# Altium schematic symbol library STM32F1.SchLib: 3 symbols
Pins are listed as number, name and electrical type; pins without a type are passive.

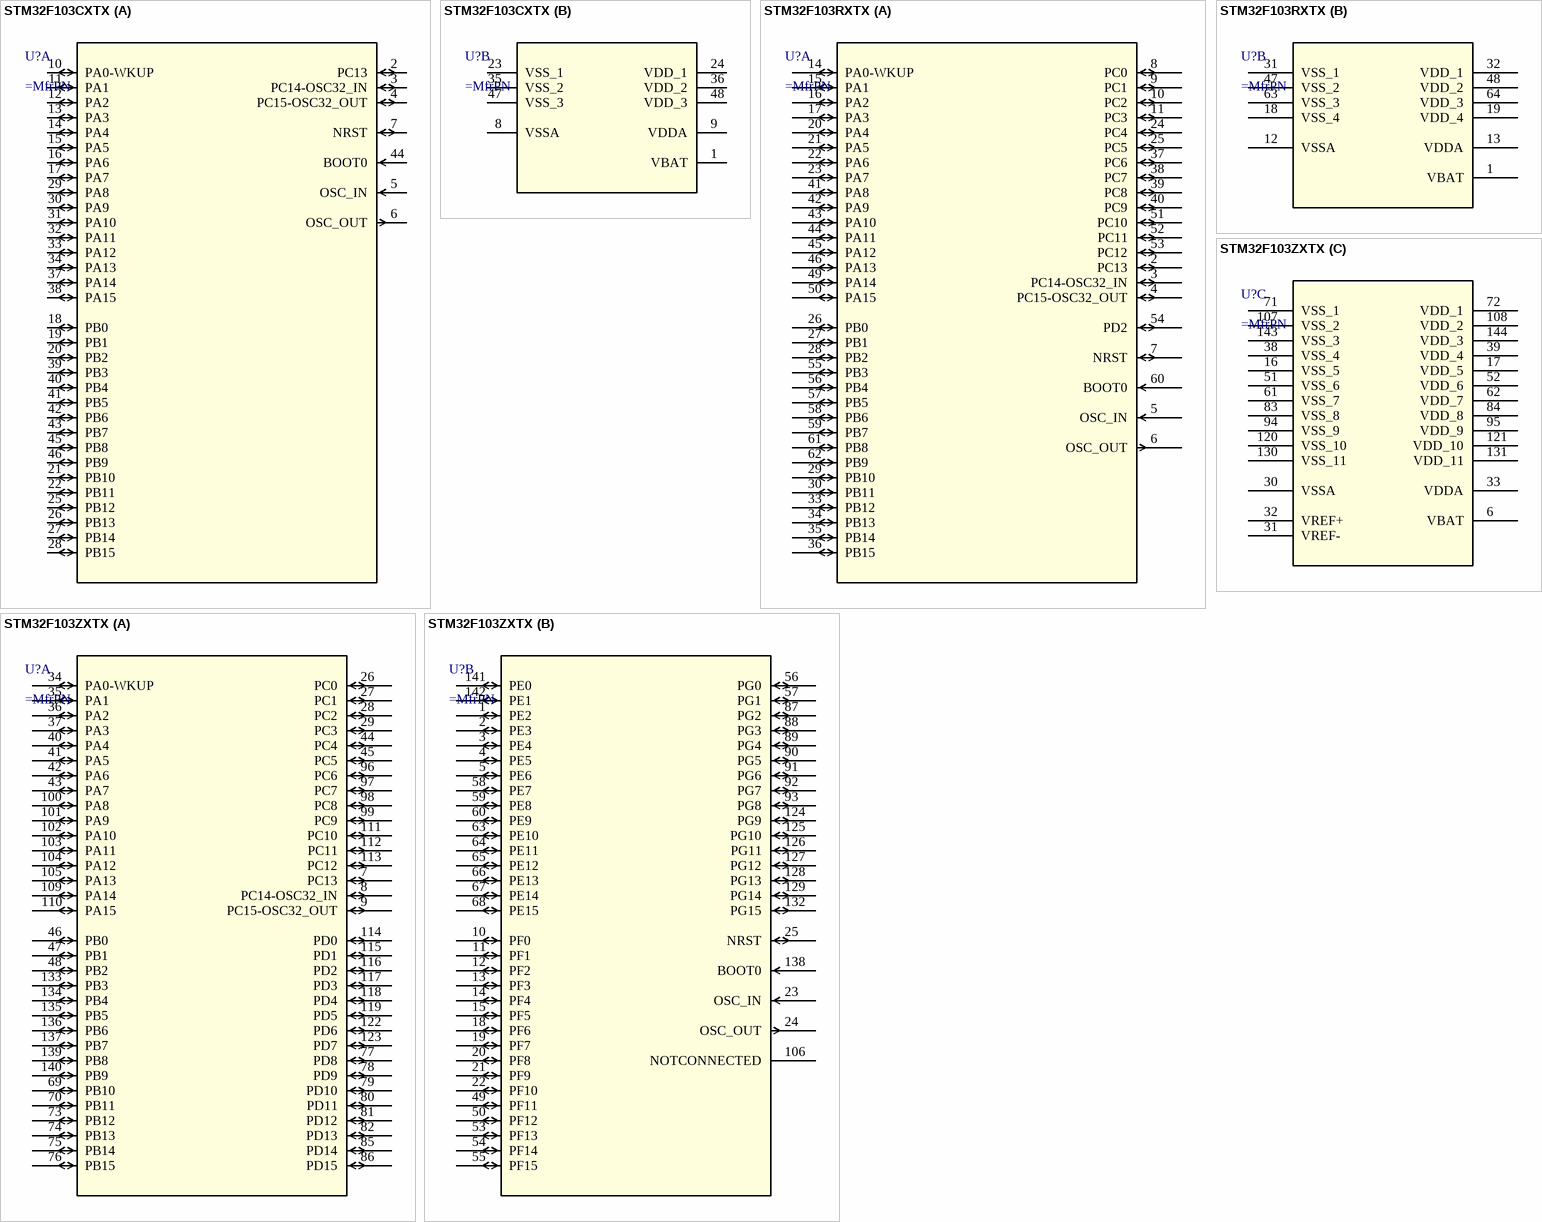
[diagram p0: symbols STM32F103CXTX to STM32F103ZXTX]

## STM32F103CXTX
designator U?
part A pins: 2 PC13, 3 PC14-OSC32_IN, 4 PC15-OSC32_OUT, 5 OSC_IN, 6 OSC_OUT, 7 NRST, 10 PA0-WKUP, 11 PA1, 12 PA2, 13 PA3, 14 PA4, 15 PA5, 16 PA6, 17 PA7, 18 PB0, 19 PB1, 20 PB2, 21 PB10, 22 PB11, 25 PB12, 26 PB13, 27 PB14, 28 PB15, 29 PA8, 30 PA9, 31 PA10, 32 PA11, 33 PA12, 34 PA13, 37 PA14, 38 PA15, 39 PB3, 40 PB4, 41 PB5, 42 PB6, 43 PB7, 44 BOOT0, 45 PB8, 46 PB9
part B pins: 1 VBAT, 8 VSSA, 9 VDDA, 23 VSS_1, 24 VDD_1, 35 VSS_2, 36 VDD_2, 47 VSS_3, 48 VDD_3

## STM32F103RXTX
designator U?
part A pins: 2 PC13, 3 PC14-OSC32_IN, 4 PC15-OSC32_OUT, 5 OSC_IN, 6 OSC_OUT, 7 NRST, 8 PC0, 9 PC1, 10 PC2, 11 PC3, 14 PA0-WKUP, 15 PA1, 16 PA2, 17 PA3, 20 PA4, 21 PA5, 22 PA6, 23 PA7, 24 PC4, 25 PC5, 26 PB0, 27 PB1, 28 PB2, 29 PB10, 30 PB11, 33 PB12, 34 PB13, 35 PB14, 36 PB15, 37 PC6, 38 PC7, 39 PC8, 40 PC9, 41 PA8, 42 PA9, 43 PA10, 44 PA11, 45 PA12, 46 PA13, 49 PA14, 50 PA15, 51 PC10, 52 PC11, 53 PC12, 54 PD2, 55 PB3, 56 PB4, 57 PB5, 58 PB6, 59 PB7, 60 BOOT0, 61 PB8, 62 PB9
part B pins: 1 VBAT, 12 VSSA, 13 VDDA, 18 VSS_4, 19 VDD_4, 31 VSS_1, 32 VDD_1, 47 VSS_2, 48 VDD_2, 63 VSS_3, 64 VDD_3

## STM32F103ZXTX
designator U?
part A pins: 7 PC13, 8 PC14-OSC32_IN, 9 PC15-OSC32_OUT, 26 PC0, 27 PC1, 28 PC2, 29 PC3, 34 PA0-WKUP, 35 PA1, 36 PA2, 37 PA3, 40 PA4, 41 PA5, 42 PA6, 43 PA7, 44 PC4, 45 PC5, 46 PB0, 47 PB1, 48 PB2, 69 PB10, 70 PB11, 73 PB12, 74 PB13, 75 PB14, 76 PB15, 77 PD8, 78 PD9, 79 PD10, 80 PD11, 81 PD12, 82 PD13, 85 PD14, 86 PD15, 96 PC6, 97 PC7, 98 PC8, 99 PC9, 100 PA8, 101 PA9, 102 PA10, 103 PA11, 104 PA12, 105 PA13, 109 PA14, 110 PA15, 111 PC10, 112 PC11, 113 PC12, 114 PD0, 115 PD1, 116 PD2, 117 PD3, 118 PD4, 119 PD5, 122 PD6, 123 PD7, 133 PB3, 134 PB4, 135 PB5, 136 PB6, 137 PB7, 139 PB8, 140 PB9
part B pins: 1 PE2, 2 PE3, 3 PE4, 4 PE5, 5 PE6, 10 PF0, 11 PF1, 12 PF2, 13 PF3, 14 PF4, 15 PF5, 18 PF6, 19 PF7, 20 PF8, 21 PF9, 22 PF10, 23 OSC_IN, 24 OSC_OUT, 25 NRST, 49 PF11, 50 PF12, 53 PF13, 54 PF14, 55 PF15, 56 PG0, 57 PG1, 58 PE7, 59 PE8, 60 PE9, 63 PE10, 64 PE11, 65 PE12, 66 PE13, 67 PE14, 68 PE15, 87 PG2, 88 PG3, 89 PG4, 90 PG5, 91 PG6, 92 PG7, 93 PG8, 106 NOTCONNECTED, 124 PG9, 125 PG10, 126 PG11, 127 PG12, 128 PG13, 129 PG14, 132 PG15, 138 BOOT0, 141 PE0, 142 PE1
part C pins: 6 VBAT, 16 VSS_5, 17 VDD_5, 30 VSSA, 31 VREF-, 32 VREF+, 33 VDDA, 38 VSS_4, 39 VDD_4, 51 VSS_6, 52 VDD_6, 61 VSS_7, 62 VDD_7, 71 VSS_1, 72 VDD_1, 83 VSS_8, 84 VDD_8, 94 VSS_9, 95 VDD_9, 107 VSS_2, 108 VDD_2, 120 VSS_10, 121 VDD_10, 130 VSS_11, 131 VDD_11, 143 VSS_3, 144 VDD_3